# EAGLE library part LTC3225-1 (library PowerProducts)
LT-Spice library generated with : ltspice.ulp from: D:/Program Files (x86)/LTC/LTspiceIV/lib/sym/PowerProducts/LTC3230*.asy at 07.10.2012 17:57:48
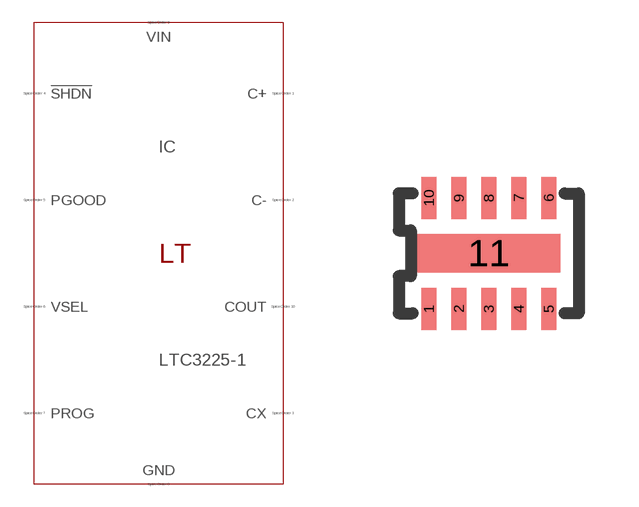
[diagram p147: symbol with the pads of DFN10(DDB); footprint DFN10(DDB)]

Designator prefix IC

## LTC3225-1 (SPICEMODEL: LTC3225-1.sub; SPICEPREFIX: X; VALUE2: LTC3225-1)  [DFN10(DDB)]
1  C+  pas
2  C-  pas
3  CX  pas
4  !SHDN  pas
5  PGOOD  pas
6  VSEL  pas
7  PROG  pas
8  GND  pas
9  VIN  pas
10  COUT  pas
11  GND  pas

## Footprint DFN10(DDB) (pad centres in mm)
Package generated from: DFN10(DDB).asc (!PADS-POWERPCB-V5.0-BASIC! DESIGN DATABASE ASCII FILE 1.0) with :import-pads-powerpcb-v5.ulp Version 1.0.1 at 04.10.2012 14:11:16
smd 0.375 x 1.05: 1 -1.5,-1.387; 2 -0.75,-1.387; 3 0,-1.387; 4 0.75,-1.387; 5 1.5,-1.387; 6 1.5,1.387; 7 0.75,1.387; 8 0,1.387; 9 -0.75,1.387; 10 -1.5,1.387
smd 3.585 x 0.96: 11 0,0